# Altium integrated library BM04B-SRSS-TB_LF__SN_.IntLib: 1 symbol
Pins are listed as number, name and electrical type; pins without a type are passive.

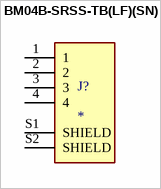
[diagram p0: symbol BM04B-SRSS-TB(LF)(SN)]

## BM04B-SRSS-TB(LF)(SN)
designator J?
Connector Header Surface Mount 4 position 0.039 (1.00mm); MP: BM04B-SRSS-TB(LF)(SN); MF: JST Sales; Package: None; Availability: In Stock; SnapEDA_Link: https://www.snapeda.com/parts/BM04B-SRSS-TB(LF)(SN)/JST+Sales+America+Inc./view-part/?ref=snap; Value: *; Price: None; Purchase-URL: https://pricing.snapeda.com/search/part/BM04B-SRSS-TB(LF)(SN)/?ref=eda; Check_prices: https://www.snapeda.com/parts/BM04B-SRSS-TB(LF)(SN)/JST+Sales+America+Inc./view-part/?ref=eda
footprint JST_BM04B-SRSS-TB(LF)(SN)
pins: 1, 2, 3, 4, S1 SHIELD, S2 SHIELD